# EAGLE library part STM32F417VET6 (library RoboJackets-ICs)
IC MCU 32BIT 512KB FLASH 100LQFP Datasheet <https://www.st.com/content/ccc/resource/technical/document/datasheet/98/9f/89/73/01/b1/48/98/DM00035129.pdf/files/DM00035129.pdf/jcr:content/translations/en.DM00035129.pdf>
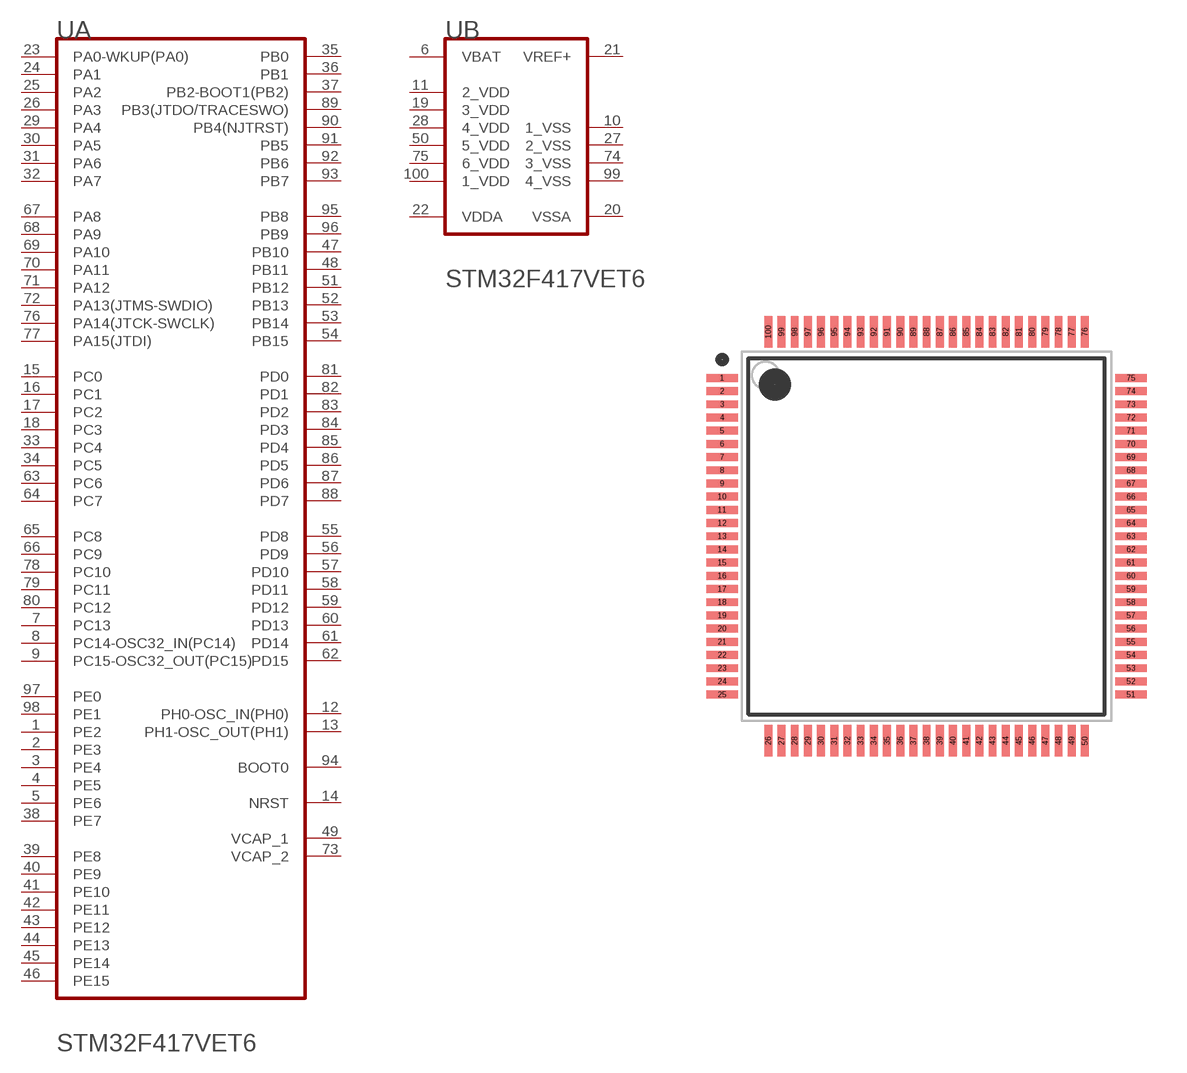
[diagram p30: symbol with the pads of LQFP100; footprint LQFP100]

Designator prefix U; gates A=STMICROELECTRONICS_STM32F417VET6_0_0 B=STMICROELECTRONICS_STM32F417VET6_0_1

## STM32F417VET6STMICROELECTRONICS_STM32F417VET6_0_0 (DKPN: 497-11901-ND)  [LQFP100]
1  A:PE2
2  A:PE3
3  A:PE4
4  A:PE5
5  A:PE6
6  B:VBAT  pwr
7  A:PC13
8  A:PC14-OSC32_IN(PC14)
9  A:PC15-OSC32_OUT(PC15)
10  B:1_VSS  pwr
11  B:2_VDD  pwr
12  A:PH0-OSC_IN(PH0)
13  A:PH1-OSC_OUT(PH1)
14  A:NRST
15  A:PC0
16  A:PC1
17  A:PC2
18  A:PC3
19  B:3_VDD  pwr
20  B:VSSA  pwr
21  B:VREF+  pwr
22  B:VDDA  pwr
23  A:PA0-WKUP(PA0)
24  A:PA1
25  A:PA2
26  A:PA3
27  B:2_VSS  pwr
28  B:4_VDD  pwr
29  A:PA4
30  A:PA5
31  A:PA6
32  A:PA7
33  A:PC4
34  A:PC5
35  A:PB0
36  A:PB1
37  A:PB2-BOOT1(PB2)
38  A:PE7
39  A:PE8
40  A:PE9
41  A:PE10
42  A:PE11
43  A:PE12
44  A:PE13
45  A:PE14
46  A:PE15
47  A:PB10
48  A:PB11
49  A:VCAP_1  pwr
50  B:5_VDD  pwr
51  A:PB12
52  A:PB13
53  A:PB14
54  A:PB15
55  A:PD8
56  A:PD9
57  A:PD10
58  A:PD11
59  A:PD12
60  A:PD13
61  A:PD14
62  A:PD15
63  A:PC6
64  A:PC7
65  A:PC8
66  A:PC9
67  A:PA8
68  A:PA9
69  A:PA10
70  A:PA11
71  A:PA12
72  A:PA13(JTMS-SWDIO)
73  A:VCAP_2  pwr
74  B:3_VSS  pwr
75  B:6_VDD  pwr
76  A:PA14(JTCK-SWCLK)
77  A:PA15(JTDI)
78  A:PC10
79  A:PC11
80  A:PC12
81  A:PD0
82  A:PD1
83  A:PD2
84  A:PD3
85  A:PD4
86  A:PD5
87  A:PD6
88  A:PD7
89  A:PB3(JTDO/TRACESWO)
90  A:PB4(NJTRST)
91  A:PB5
92  A:PB6
93  A:PB7
94  A:BOOT0  in
95  A:PB8
96  A:PB9
97  A:PE0
98  A:PE1
99  B:4_VSS  pwr
100  B:1_VDD  pwr

## Footprint LQFP100 (pad centres in mm)
MC-ARM-STM32F40X_41X-SQ100
smd 1.2 x 0.3: 1 -7.75,6; 2 -7.75,5.5; 3 -7.75,5; 4 -7.75,4.5; 5 -7.75,4; 6 -7.75,3.5; 7 -7.75,3; 8 -7.75,2.5; 9 -7.75,2; 10 -7.75,1.5; 11 -7.75,1; 12 -7.75,0.5; 13 -7.75,0; 14 -7.75,-0.5; 15 -7.75,-1; 16 -7.75,-1.5; 17 -7.75,-2; 18 -7.75,-2.5; 19 -7.75,-3; 20 -7.75,-3.5; 21 -7.75,-4; 22 -7.75,-4.5; 23 -7.75,-5; 24 -7.75,-5.5; 25 -7.75,-6; 51 7.75,-6; 52 7.75,-5.5; 53 7.75,-5; 54 7.75,-4.5; 55 7.75,-4; 56 7.75,-3.5; 57 7.75,-3; 58 7.75,-2.5; 59 7.75,-2; 60 7.75,-1.5; 61 7.75,-1; 62 7.75,-0.5; 63 7.75,0; 64 7.75,0.5; 65 7.75,1; 66 7.75,1.5; 67 7.75,2; 68 7.75,2.5; 69 7.75,3; 70 7.75,3.5; 71 7.75,4; 72 7.75,4.5; 73 7.75,5; 74 7.75,5.5; 75 7.75,6
smd 0.3 x 1.2: 26 -6,-7.75; 27 -5.5,-7.75; 28 -5,-7.75; 29 -4.5,-7.75; 30 -4,-7.75; 31 -3.5,-7.75; 32 -3,-7.75; 33 -2.5,-7.75; 34 -2,-7.75; 35 -1.5,-7.75; 36 -1,-7.75; 37 -0.5,-7.75; 38 0,-7.75; 39 0.5,-7.75; 40 1,-7.75; 41 1.5,-7.75; 42 2,-7.75; 43 2.5,-7.75; 44 3,-7.75; 45 3.5,-7.75; 46 4,-7.75; 47 4.5,-7.75; 48 5,-7.75; 49 5.5,-7.75; 50 6,-7.75; 76 6,7.75; 77 5.5,7.75; 78 5,7.75; 79 4.5,7.75; 80 4,7.75; 81 3.5,7.75; 82 3,7.75; 83 2.5,7.75; 84 2,7.75; 85 1.5,7.75; 86 1,7.75; 87 0.5,7.75; 88 0,7.75; 89 -0.5,7.75; 90 -1,7.75; 91 -1.5,7.75; 92 -2,7.75; 93 -2.5,7.75; 94 -3,7.75; 95 -3.5,7.75; 96 -4,7.75; 97 -4.5,7.75; 98 -5,7.75; 99 -5.5,7.75; 100 -6,7.75